# Altium footprint library WPAK-8.PcbLib: 1 footprints
Each footprint in its own frame and in the unit in brackets; x right, y up, seen from the top. Pads: shape width x height; smd on the part's side, far side on the other; paste and mask are expansions set on the pad; w line width, h text height; cw(c..) or ccw(c..) is an arc to the next point about the centre after c.
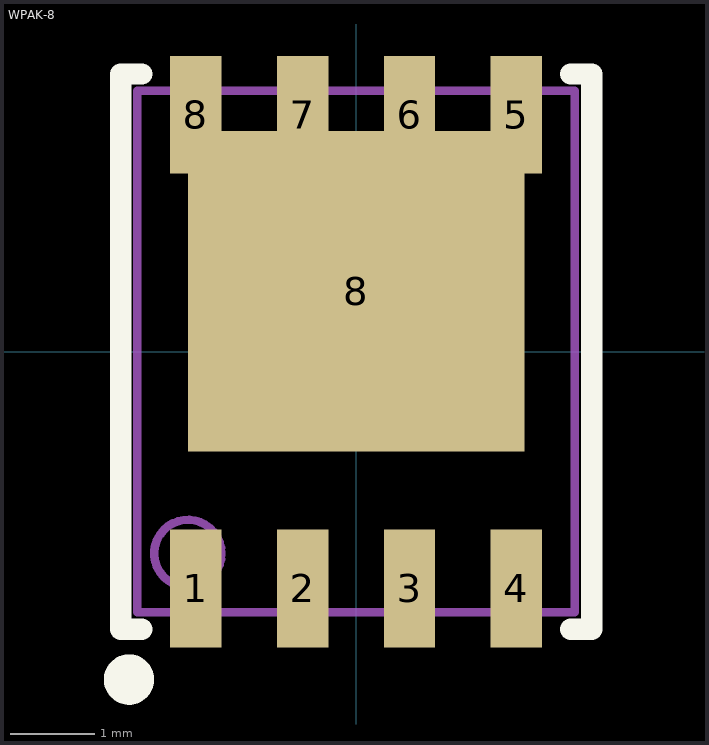
[diagram p0: the footprint, top view; thin cyan lines are the x and y axes]

## WPAK-8 [mm]
pads (9):
  rect 0.61x1.4 smd: 1(-1.905,-2.816) 2(-0.635,-2.816) 3(0.635,-2.816) 4(1.905,-2.816) 5(1.905,2.816) 6(0.635,2.816) 7(-0.635,2.816) 8(-1.905,2.816)
  rect 4x3.81 smd: 8(0,0.716)
Top Overlay:
  circle w0.3: c-2.7,-3.9 r0.15
  lines w0.254: -2.55,-3.3 -2.8,-3.3 -2.8,3.3 -2.55,3.3 ; 2.55,-3.3 2.8,-3.3 2.8,3.3 2.55,3.3
Mechanical 13:
  circle w0.1: c-2,-2.4 r0.4
  lines w0.1: -2.6,-3.1 -2.6,3.1 2.6,3.1 2.6,-3.1 -2.6,-3.1